# Altium footprint library SMA_ANGLED.PcbLib: 1 footprints
Each footprint in its own frame and in the unit in brackets; x right, y up, seen from the top. Pads: shape width x height; smd on the part's side, far side on the other; paste and mask are expansions set on the pad; w line width, h text height; cw(c..) or ccw(c..) is an arc to the next point about the centre after c.
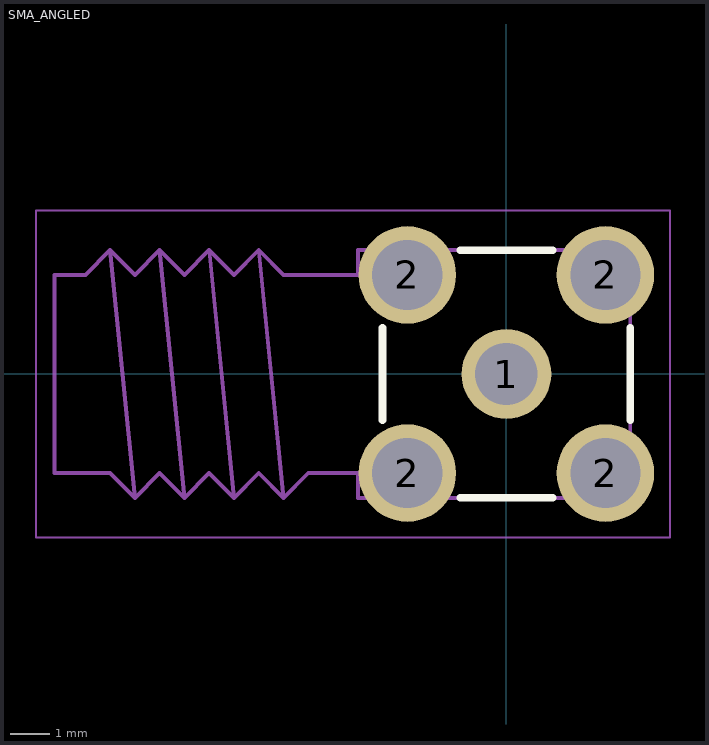
[diagram p0: the footprint, top view; thin cyan lines are the x and y axes]

## SMA_ANGLED [mm]
pads (5):
  round 2.3 hole 1.6: 1(0,0)
  round 2.5 hole 1.8: 2(-2.54,-2.54) 2(-2.54,2.54) 2(2.54,-2.54) 2(2.54,2.54)
Top Overlay:
  lines w0.2: -3.175,-1.181 -3.175,1.181 ; -1.181,-3.175 1.181,-3.175 ; -1.181,3.175 1.181,3.175 ; 3.175,-1.181 3.175,1.181
Mechanical 13:
  lines w0.1: -11.591,-2.54 -11.591,2.54 -10.795,2.54 -10.16,3.175 ; -11.557,-2.54 -10.16,-2.54 -9.525,-3.175 ; -3.04,-2.97 -3.04,-2.04 -2.04,-2.04 -2.04,-3.04 -2.97,-3.04 ; -3.04,2.97 -3.04,2.04 -2.04,2.04 -2.04,3.04 -2.97,3.04 ; 2.794,-3.175 -3.81,-3.175 -3.81,-2.54 -5.08,-2.54 -5.715,-3.175 ; 2.794,3.175 -3.81,3.175 -3.81,2.54 -5.715,2.54 -6.35,3.175 ; 2.808,-3.191 ccw(c0,0) 3.191,-2.808 ; 2.808,3.19 cw(c0,0) 3.191,2.808 ; 2.97,3.04 2.04,3.04 2.04,2.04 3.04,2.04 3.04,2.97 ; 2.97,-3.04 2.04,-3.04 2.04,-2.04 3.04,-2.04 3.04,-2.97 ; 3.175,-2.794 3.175,2.794 ; -10.16,3.175 -9.525,2.54 -8.89,3.175 ; -10.16,3.175 -9.525,-3.175 ; -9.525,-3.175 -8.89,-2.54 -8.255,-3.175 ; -8.89,3.175 -8.255,2.54 -7.62,3.175 ; -8.89,3.175 -8.255,-3.175 ; -8.255,-3.175 -7.62,-2.54 -6.985,-3.175 ; -7.62,3.175 -6.985,2.54 -6.35,3.175 ; -7.62,3.175 -6.985,-3.175 ; -6.985,-3.175 -6.35,-2.54 -5.715,-3.175 ; -6.35,3.175 -5.715,-3.175
Mechanical 15:
  lines w0.05: -12.065,-4.191 -12.065,4.191 4.191,4.191 4.191,-4.191 -12.065,-4.191
  lines w0.1: -0.635,0 0.635,0 ; 0,-0.635 0,0.635
Mechanical 17:
  text "'.Designator'" at -4.191,-0.635 h0.64
Mechanical 19:
  text "'.Comment'" at -3.302,0 h0.64
3D body "731000114.stp": height 9.67, standoff -3.83, extent -11.591,-3.175 3.209,3.175